# Altium schematic symbol library Chip Capacitor Polarized.SchLib: 6 symbols
Pins are listed as number, name and electrical type; pins without a type are passive.

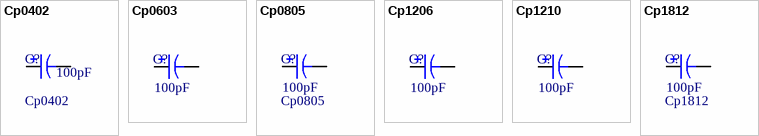
[diagram p0: symbols Cp0402 to Cp1812]

## Cp0402
designator C?  value 100pF
0402 Polarized Chip Capacitor - Standard; Series: *
simulation model CAP (Capacitor)
signal-integrity model C0402
footprint 0402p (Chip Capacitor; Body 1.0 x 0.5 mm (LxW typ) polarized)
pins: 1, 2

## Cp0603
designator C?  value 100pF  (hidden comment: Cp0603)
0603 Polarized Chip Capacitor - Standard; Series: *
simulation model CAP (Capacitor)
signal-integrity model C0603
footprint 0603p (Chip Capacitor; Body 1.6 x 0.8 mm (LxW typ) polarized)
pins: 1, 2

## Cp0805
designator C?  value 100pF
P0805 Polarized Chip Capacitor - Standard; Series: *
simulation model CAP (Capacitor)
signal-integrity model C0805
footprint 0805p (Chip Capacitor; Body 2.0 x 1.2 mm (LxW typ) polarized)
pins: 1, 2

## Cp1206
designator C?  value 100pF  (hidden comment: Cp1206)
1206 Polarized Chip Capacitor - Standard
simulation model CAP (Capacitor)
signal-integrity model C1210
footprint 1206p (Chip Capacitor; Body 3.2 x 1.6 mm (LxW typ) polarized)
pins: 1, 2

## Cp1210
designator C?  value 100pF  (hidden comment: Cp1210)
1210 Polarized Chip Capacitor - Standard
simulation model CAP (Capacitor)
signal-integrity model C1210
footprint 1210p (Chip Capacitor; Body 3.2 x 2.5 mm (LxW typ) polarized)
pins: 1, 2

## Cp1812
designator C?  value 100pF
1812 Polarized Chip Capacitor - Standard; Series: *
simulation model CAP (Capacitor)
signal-integrity model C1812
footprint 1812p (Chip Capacitor; Body 4.5 x 3.2 mm (LxW typ) polarized)
pins: 1, 2